# Altium schematic symbol library V1.SchLib: 35 symbols
Pins are listed as number, name and electrical type; pins without a type are passive.

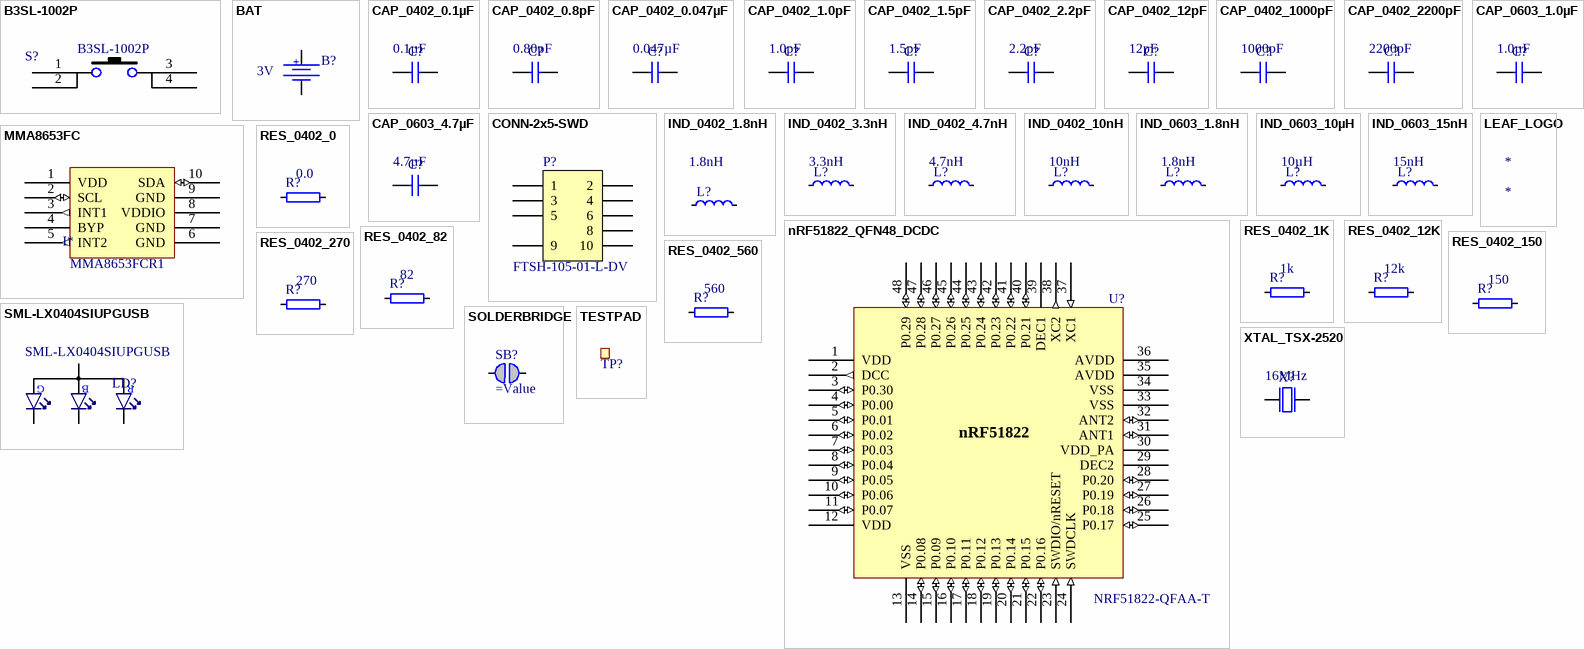
[diagram p0: symbols B3SL-1002P to XTAL_TSX-2520]

## B3SL-1002P
designator S?, comment Manufacturer Part Number 1: B3SL-1002P  (hidden comment: Digi-Key)
SWITCH TACTILE SPST-NO 0.05A 12V; Manufacturer 1: Omron Electronics Inc-EMC Div; Switch Function: Off-Mom; Contact Rating @ Voltage: 0.05A @ 12VDC; Actuator Type: Standard; Actuator Height off PCB, from Pins: 3.40mm; Actuator Orientation: Top Actuated; Outline: 6.00mm x 6.00mm; Illumination: Non-Illuminated; Operating Force: 200gf; Ingress Protection: IP67 - Dust Tight, Waterproof; Actuator Material: Rubber; Switch Travel: 0.30mm; Mechanical Life: 100,000 Cycles; Supplier 1: Digi-Key; Supplier Part Number 1: SW1064CT-ND; RoHS: RoHS Compliant; Description 1: SWITCH TACTILE SPST-NO 0.05A 12V; Category: Switches; Stock 1: 1994; Pricing 1: 1=0.83, 10=0.804, 25=0.7588, 50=0.6676, 100=0.607, 250=0.57664, 500=0.56146, 1000=0.44006 (USD); Packaging: Cut Tape (CT); Circuit: SPST-NO; Mounting Type: Surface Mount; Termination Style: SMD (SMT) Tab; Illumination Voltage (Nominal): -; Illumination Type, Color: -; Features: Sealed - Fully; Operating Temperature: -25°C ~ 90°C; ComponentLink1URL: http://components.omron.com/components/web/pdflib.nsf/0/08698493193ABB20862574E8006A227D/$file/B3SL_1110.pdf; ComponentLink1Description: http://components.omron.com/components/web/pdflib.nsf/0/08698493193ABB20862574E8006A227D/$file/B3SL_1110.pdf
footprint B3SL-1002P
pins: 1, 2, 3, 4

## BAT
designator B?  value 3V
HOLDER BATTERY COIN 20MM DIA SMD; Manufacturer 1: MPD (Memory Protection Devices); Manufacturer Part Number 1: BU2032SM-BT-GTR; Description 1: HOLDER CR2032 GOLD LEADS SMD; Battery Type, Function: Coin Cell, Holder; Style: Holder (Open); Battery Cell Size: Coin, 20.0mm; Number of Cells: 1; Battery Series: 2032; Supplier 1: Digi-Key; Supplier Part Number 1: BU2032SM-BT-GCT-ND; RoHS: RoHS Compliant; Category: Battery Products; Stock 1: 25334; Pricing 1: 1=0.6, 10=0.555, 100=0.525 (USD); Mounting Type: PCB, Surface Mount; Termination Style: SMD (SMT) Tab; Height Above Board: 0.205" (5.20mm); Operating Temperature: -40°C ~ 280°C; ComponentLink1URL: http://www.memoryprotectiondevices.com/datasheets/BU2032SM-BT-GTR-datasheet.pdf; ComponentLink1Description: http://www.memoryprotectiondevices.com/datasheets/BU2032SM-BT-GTR-datasheet.pdf
footprint BU2032SM-BT-GTR
pins: 1, 2
text: +

## CAP_0402_0.1µF
designator C?, comment 0.1µF
CAP CER 0.1UF 16V 10% X7R 0402; Manufacturer 1: Taiyo Yuden; Manufacturer Part Number 1: EMK105B7104KV-F; Supplier 1: Digi-Key; Supplier Part Number 1: 587-1451-1-ND; RoHS: RoHS Compliant; Description 1: CAP CER 0.1UF 16V 10% X7R 0402; Category: Capacitors; Stock 1: 1961539; Pricing 1: 1=0.1, 10=0.016, 50=0.0084, 100=0.0072, 250=0.00584, 500=0.005, 1000=0.0039, 5000=0.00325 (USD); Packaging: Cut Tape (CT); Voltage - Rated: 16V; Tolerance: ±10%; Temperature Coefficient: X7R; Mounting Type: Surface Mount, MLCC; Operating Temperature: -55°C ~ 125°C; Applications: General Purpose; Ratings: -; Package / Case: 0402 (1005 Metric); Size / Dimension: 0.039" L x 0.020" W (1.00mm x 0.50mm); Height - Seated (Max): -; Thickness (Max): 0.022" (0.55mm); Lead Spacing: -; Features: -; Lead Style: -; ComponentLink1URL: http://www.yuden.co.jp/or/product/category/capacitor/EMK105B7104KV-F.pdf; ComponentLink1Description: http://www.yuden.co.jp/or/product/category/capacitor/EMK105B7104KV-F.pdf; Capacitance: 0.1µF
footprint CAPC1005X04L
pins: 1, 2

## CAP_0402_0.8pF
designator C?, comment 0.80pF
CAP CER 0.8PF 50V NP0 0402; Manufacturer 1: Kemet; Manufacturer Part Number 1: CBR04C808C5GAC; Tolerance: ±0.25pF; Temperature Coefficient: C0G, NP0; Supplier 1: Digi-Key; Supplier Part Number 1: 399-6160-1-ND; RoHS: RoHS Compliant; Description 1: CAP CER 0.8PF 50V NP0 0402; Category: Capacitors; Stock 1: 23376; Pricing 1: 1=0.11, 10=0.08, 50=0.0436, 100=0.0369, 250=0.03016, 500=0.0258, 1000=0.0201, 2500=0.01809, 5000=0.01675 (USD); Packaging: Cut Tape (CT); Voltage - Rated: 50V; Mounting Type: Surface Mount, MLCC; Operating Temperature: -55°C ~ 125°C; Applications: RF, Microwave, High Frequency; Ratings: -; Package / Case: 0402 (1005 Metric); Size / Dimension: 0.039" L x 0.020" W (1.00mm x 0.50mm); Height - Seated (Max): -; Thickness (Max): 0.022" (0.55mm); Lead Spacing: -; Features: High Q, Low Loss; Lead Style: -; ComponentLink1URL: http://www.kemet.com/kemet/web/homepage/kechome.nsf/file/E8E10945B57BE93285257989006DD493/$file/KEM_C1030_CBR_SMD.pdf; ComponentLink1Description: http://www.kemet.com/kemet/web/homepage/kechome.nsf/file/E8E10945B57BE93285257989006DD493/$file/KEM_C1030_CBR_SMD.pdf; Capacitance: 0.80pF
footprint CAPC1005X04L
pins: 1, 2

## CAP_0402_0.047µF
designator C?, comment 0.047µF
CAP CER 0.047UF 16V 10% X7R 0402; Manufacturer 1: Samsung Electro-Mechanics America, Inc; Manufacturer Part Number 1: CL05B473KO5NNNC; Supplier 1: Digi-Key; Supplier Part Number 1: 1276-1077-1-ND; RoHS: RoHS Compliant; Description 1: CAP CER 0.047UF 16V 10% X7R 0402; Category: Capacitors; Stock 1: 43117; Pricing 1: 1=0.1, 10=0.014, 25=0.0104, 50=0.0078, 100=0.0066, 250=0.0054, 500=0.00462, 1000=0.0036, 2500=0.00324 (USD); Packaging: Cut Tape (CT); Voltage - Rated: 16V; Tolerance: ±10%; Temperature Coefficient: X7R; Mounting Type: Surface Mount, MLCC; Operating Temperature: -55°C ~ 125°C; Applications: General Purpose; Ratings: -; Package / Case: 0402 (1005 Metric); Size / Dimension: 0.039" L x 0.020" W (1.00mm x 0.50mm); Height - Seated (Max): -; Thickness (Max): 0.022" (0.55mm); Lead Spacing: -; Features: -; Lead Style: -; ComponentLink1URL: http://www.samsungsem.com/servlet/FileDownload?type=spec&file=CL05B473KO5NNNC.pdf; ComponentLink1Description: http://www.samsungsem.com/servlet/FileDownload?type=spec&file=CL05B473KO5NNNC.pdf; Capacitance: 0.047µF
footprint CAPC1005X04L
pins: 1, 2

## CAP_0402_1.0pF
designator C?, comment 1.0pF
CAP CER 1PF 50V NP0 0402; Manufacturer 1: Johanson Technology Inc; Manufacturer Part Number 1: 500R07S1R0BV4T; Tolerance: ±0.1pF; Temperature Coefficient: C0G, NP0; Supplier 1: Digi-Key; Supplier Part Number 1: 712-1266-1-ND; RoHS: RoHS Compliant; Category: Capacitors; Stock 1: 34245; Pricing 1: 1=0.19, 10=0.13, 25=0.0976, 50=0.0748, 100=0.0618, 250=0.052, 500=0.04356, 1000=0.03575, 2500=0.03282 (USD); Packaging: Cut Tape (CT); Voltage - Rated: 50V; Mounting Type: Surface Mount, MLCC; Operating Temperature: -55°C ~ 125°C; Applications: RF, Microwave, High Frequency; Ratings: -; Package / Case: 0402 (1005 Metric); Size / Dimension: 0.040" L x 0.020" W (1.02mm x 0.51mm); Height - Seated (Max): -; Thickness (Max): 0.024" (0.61mm); Lead Spacing: -; Features: High Q, Low Loss; Lead Style: -; ComponentLink1URL: http://www.johansontechnology.com/images/stories/catalog/JTI_CAT_2012_MLCC_HighQ.pdf; ComponentLink1Description: http://www.johansontechnology.com/images/stories/catalog/JTI_CAT_2012_MLCC_HighQ.pdf; Description 1: CAP CER 1PF 50V NP0 0402; Capacitance: 1.0pF
footprint CAPC1005X04L
pins: 1, 2

## CAP_0402_1.5pF
designator C?, comment 1.5pF
CAP CER 1.5PF 50V NP0 0402; Manufacturer 1: Samsung Electro-Mechanics America, Inc; Manufacturer Part Number 1: CL05C1R5BB5NNNC; Tolerance: ±0.1pF; Temperature Coefficient: C0G, NP0; Supplier 1: Digi-Key; Supplier Part Number 1: 1276-1656-1-ND; RoHS: RoHS Compliant; Description 1: CAP CER 1.5PF 50V NP0 0402; Category: Capacitors; Stock 1: 28360; Pricing 1: 1=0.1, 10=0.026, 25=0.0188, 50=0.0144, 100=0.0121, 250=0.00992, 500=0.00848, 1000=0.0066, 2500=0.00594 (USD); Packaging: Cut Tape (CT); Voltage - Rated: 50V; Mounting Type: Surface Mount, MLCC; Operating Temperature: -55°C ~ 125°C; Applications: General Purpose; Ratings: -; Package / Case: 0402 (1005 Metric); Size / Dimension: 0.039" L x 0.020" W (1.00mm x 0.50mm); Height - Seated (Max): -; Thickness (Max): 0.022" (0.55mm); Lead Spacing: -; Features: -; Lead Style: -; ComponentLink1URL: http://www.samsungsem.com/servlet/FileDownload?type=spec&file=CL05C1R5BB5NNNC.pdf; ComponentLink1Description: http://www.samsungsem.com/servlet/FileDownload?type=spec&file=CL05C1R5BB5NNNC.pdf; Capacitance: 1.5pF
footprint CAPC1005X04L
pins: 1, 2

## CAP_0402_2.2pF
designator C?, comment 2.2pF
CAP CER 2.2PF 100V NP0 0402; Manufacturer 1: Kemet; Manufacturer Part Number 1: CBR04C229B1GAC; Tolerance: ±0.1pF; Temperature Coefficient: C0G, NP0; Supplier 1: Digi-Key; Supplier Part Number 1: 399-8593-1-ND; RoHS: RoHS Compliant; Description 1: CAP CER 2.2PF 100V NP0 0402; Category: Capacitors; Stock 1: 7453; Pricing 1: 1=0.21, 10=0.145, 50=0.088, 100=0.0739, 250=0.05984, 500=0.0528, 1000=0.04488, 2500=0.04136, 5000=0.03784 (USD); Packaging: Cut Tape (CT); Voltage - Rated: 100V; Mounting Type: Surface Mount, MLCC; Operating Temperature: -55°C ~ 125°C; Applications: RF, Microwave, High Frequency; Ratings: -; Package / Case: 0402 (1005 Metric); Size / Dimension: 0.039" L x 0.020" W (1.00mm x 0.50mm); Height - Seated (Max): -; Thickness (Max): 0.022" (0.55mm); Lead Spacing: -; Features: High Q, Low Loss; Lead Style: -; ComponentLink1URL: http://www.kemet.com/kemet/web/homepage/kechome.nsf/file/E8E10945B57BE93285257989006DD493/$file/KEM_C1030_CBR_SMD.pdf; ComponentLink1Description: http://www.kemet.com/kemet/web/homepage/kechome.nsf/file/E8E10945B57BE93285257989006DD493/$file/KEM_C1030_CBR_SMD.pdf; Capacitance: 2.2pF
footprint CAPC1005X04L
pins: 1, 2

## CAP_0402_12pF
designator C?, comment 12pF
CAP CER 10PF 50V 2% NP0 0402; Manufacturer 1: Johanson Technology Inc; Manufacturer Part Number 1: 500R07S120GV4T; Description 1: CAP CER 12PF 50V 2% NP0 0402; Temperature Coefficient: C0G, NP0; Supplier 1: Digi-Key; Supplier Part Number 1: 712-1256-1-ND; RoHS: RoHS Compliant; Category: Capacitors; Stock 1: 55015; Pricing 1: 1=0.32, 10=0.28, 25=0.2, 50=0.17, 100=0.14, 250=0.112, 500=0.102, 1000=0.092, 2500=0.08 (USD); Packaging: Cut Tape (CT); Voltage - Rated: 50V; Tolerance: ±2%; Mounting Type: Surface Mount, MLCC; Operating Temperature: -55°C ~ 125°C; Applications: RF, Microwave, High Frequency; Ratings: -; Package / Case: 0402 (1005 Metric); Size / Dimension: 0.040" L x 0.020" W (1.02mm x 0.51mm); Height - Seated (Max): -; Thickness (Max): 0.024" (0.61mm); Lead Spacing: -; Features: High Q, Low Loss; Lead Style: -; ComponentLink1URL: http://www.johansontechnology.com/images/stories/catalog/JTI_CAT_2012_MLCC_HighQ.pdf; ComponentLink1Description: http://www.johansontechnology.com/images/stories/catalog/JTI_CAT_2012_MLCC_HighQ.pdf; Capacitance: 12pF
footprint CAPC1005X04L
pins: 1, 2

## CAP_0402_1000pF
designator C?, comment 1000pF
CAP CER 1000PF 50V 10% X7R 0402; Manufacturer 1: Samsung Electro-Mechanics America, Inc; Manufacturer Part Number 1: CL05B102KB5NCNC; Supplier 1: Digi-Key; Supplier Part Number 1: 1276-1492-1-ND; RoHS: RoHS Compliant; Description 1: CAP CER 1000PF 50V 10% X7R 0402; Category: Capacitors; Stock 1: 41244; Pricing 1: 1=0.1, 10=0.011, 25=0.008, 50=0.006, 100=0.0051, 250=0.0042, 500=0.00358, 1000=0.00279, 2500=0.00251 (USD); Packaging: Cut Tape (CT); Voltage - Rated: 50V; Tolerance: ±10%; Temperature Coefficient: X7R; Mounting Type: Surface Mount, MLCC; Operating Temperature: -55°C ~ 125°C; Applications: General Purpose; Ratings: -; Package / Case: 0402 (1005 Metric); Size / Dimension: 0.039" L x 0.020" W (1.00mm x 0.50mm); Height - Seated (Max): -; Thickness (Max): 0.022" (0.55mm); Lead Spacing: -; Features: -; Lead Style: -; ComponentLink1URL: http://www.samsungsem.com/servlet/FileDownload?type=spec&file=CL05B102KB5NCNC.pdf; ComponentLink1Description: http://www.samsungsem.com/servlet/FileDownload?type=spec&file=CL05B102KB5NCNC.pdf; Capacitance: 1000pF
footprint CAPC1005X04L
pins: 1, 2

## CAP_0402_2200pF
designator C?, comment 2200pF
CAP CER 2200PF 50V 10% X7R 0402; Manufacturer 1: Samsung Electro-Mechanics America, Inc; Manufacturer Part Number 1: CL05B222KB5NNNC; Supplier 1: Digi-Key; Supplier Part Number 1: 1276-1054-1-ND; RoHS: RoHS Compliant; Description 1: CAP CER 2200PF 50V 10% X7R 0402; Category: Capacitors; Stock 1: 75521; Pricing 1: 1=0.1, 10=0.014, 25=0.0104, 50=0.0078, 100=0.0066, 250=0.0054, 500=0.00462, 1000=0.0036, 2500=0.00324 (USD); Packaging: Cut Tape (CT); Voltage - Rated: 50V; Tolerance: ±10%; Temperature Coefficient: X7R; Mounting Type: Surface Mount, MLCC; Operating Temperature: -55°C ~ 125°C; Applications: General Purpose; Ratings: -; Package / Case: 0402 (1005 Metric); Size / Dimension: 0.039" L x 0.020" W (1.00mm x 0.50mm); Height - Seated (Max): -; Thickness (Max): 0.022" (0.55mm); Lead Spacing: -; Features: -; Lead Style: -; ComponentLink1URL: http://www.samsungsem.com/servlet/FileDownload?type=spec&file=CL05B222KB5NNNC.pdf; ComponentLink1Description: http://www.samsungsem.com/servlet/FileDownload?type=spec&file=CL05B222KB5NNNC.pdf; Capacitance: 2200pF
footprint CAPC1005X04L
pins: 1, 2

## CAP_0603_1.0µF
designator C?, comment 1.0µF
CAP CER 1UF 16V 10% X7R 0603; Manufacturer 1: Taiyo Yuden; Manufacturer Part Number 1: EMK107B7105KA-T; Supplier 1: Digi-Key; Supplier Part Number 1: 587-1241-1-ND; RoHS: RoHS Compliant; Description 1: CAP CER 1UF 16V 10% X7R 0603; Category: Capacitors; Stock 1: 868936; Pricing 1: 1=0.1, 10=0.06, 50=0.0326, 100=0.0275, 250=0.02252, 500=0.01926, 1000=0.015 (USD); Packaging: Cut Tape (CT); Voltage - Rated: 16V; Tolerance: ±10%; Temperature Coefficient: X7R; Mounting Type: Surface Mount, MLCC; Operating Temperature: -55°C ~ 125°C; Applications: General Purpose; Ratings: -; Package / Case: 0603 (1608 Metric); Size / Dimension: 0.063" L x 0.031" W (1.60mm x 0.80mm); Height - Seated (Max): -; Thickness (Max): 0.035" (0.90mm); Lead Spacing: -; Features: -; Lead Style: -; ComponentLink1URL: http://www.yuden.co.jp/or/product/category/capacitor/EMK107B7105KA-T.pdf; ComponentLink1Description: http://www.yuden.co.jp/or/product/category/capacitor/EMK107B7105KA-T.pdf; Capacitance: 1.0µF
footprint CAPC1608X06L
pins: 1, 2

## CAP_0603_4.7µF
designator C?, comment 4.7µF
CAP CER 4.7UF 6.3V 10% X5R 0603; Manufacturer 1: Kemet; Manufacturer Part Number 1: C0603C475K9PACTU; Supplier 1: Digi-Key; Supplier Part Number 1: 399-3482-1-ND; RoHS: RoHS Compliant; Description 1: CAP CER 4.7UF 6.3V 10% X5R 0603; Category: Capacitors; Stock 1: 240677; Pricing 1: 1=0.13, 10=0.09, 50=0.0518, 100=0.0428, 250=0.036, 500=0.03016, 1000=0.02475 (USD); Packaging: Cut Tape (CT); Voltage - Rated: 6.3V; Tolerance: ±10%; Temperature Coefficient: X5R; Mounting Type: Surface Mount, MLCC; Operating Temperature: -55°C ~ 85°C; Applications: General Purpose; Ratings: -; Package / Case: 0603 (1608 Metric); Size / Dimension: 0.063" L x 0.031" W (1.60mm x 0.80mm); Height - Seated (Max): -; Thickness (Max): 0.035" (0.90mm); Lead Spacing: -; Features: -; Lead Style: -; ComponentLink1URL: http://www.kemet.com/datasheets&C0603C475K9PACTU; ComponentLink1Description: http://www.kemet.com/datasheets&C0603C475K9PACTU; Capacitance: 4.7µF
footprint CAPC1608X06L
pins: 1, 2

## CONN-2x5-SWD
designator P?, comment FTSH-105-01-L-DV
FTSH-105-01-L-DV  BOARD-BOARD CONN, HEADER, 10WAY, 2ROW; Manufacturer 1: SAMTEC; Description 1: SAMTEC - FTSH-105-01-L-DV - BOARD-BOARD CONN, HEADER, 10WAY, 2ROW; Supplier 1: Newark; Supplier Part Number 1: 11P4814; RoHS: YES; Stock 1: 937; Pricing 1: 1=2.18, 10=1.91, 100=1.63, 500=1.34, 1000=1.15, 5000=1.04, 10000=0.988 (USD); ComponentLink1URL: http://www.farnell.com/datasheets/1021860.pdf; ComponentLink1Description: http://www.farnell.com/datasheets/1021860.pdf; ComponentLink2URL: http://www.samtec.com/ftppub/pdf/FTSH_SMT.PDF; ComponentLink2Description: http://www.samtec.com/ftppub/pdf/FTSH_SMT.PDF; Manufacturer Part Number 1: FTSH-105-01-L-DV
footprint HDR_2x5-SMD-1.27mm-SWD
pins: 1, 2, 3, 4, 5, 6, 8, 9, 10

## IND_0402_1.8nH
designator L?  Inductance: 1.8nH
CER INDUCTOR 1.8NH 0402; Manufacturer 1: Johanson Technology Inc; Manufacturer Part Number 1: L-07C1N8SV6T; Type: Multilayer; Material - Core: Ceramic; Tolerance: ±0.3nH; Current Rating: 300mA; Shielding: Unshielded; DC Resistance (DCR): 140 mOhm Max; Q @ Freq: 8 @ 100MHz; Frequency - Self Resonant: 14GHz; Frequency - Test: 100MHz; Supplier 1: Digi-Key; Supplier Part Number 1: 712-1412-1-ND; RoHS: RoHS Compliant; Description 1: CER INDUCTOR 1.8NH 0402; Category: Inductors, Coils, Chokes; Stock 1: 17869; Pricing 1: 1=0.1, 10=0.05, 25=0.0452, 50=0.0406, 100=0.0351, 250=0.03152, 500=0.02926, 1000=0.02565 (USD); Packaging: Cut Tape (CT); Current - Saturation: -; Operating Temperature: -40°C ~ 100°C; Mounting Type: Surface Mount; Package / Case: 0402 (1005 Metric); Size / Dimension: 0.039" L x 0.020" W (1.00mm x 0.50mm); Height - Seated (Max): 0.024" (0.60mm); Supplier Device Package: 0402 (1005 Metric); ComponentLink1URL: http://www.johansontechnology.com/images/stories/rf-inductors/cci/JTI_CAT_2012_Inductors_Chip.pdf; ComponentLink1Description: http://www.johansontechnology.com/images/stories/rf-inductors/cci/JTI_CAT_2012_Inductors_Chip.pdf
footprint INDC1005X04L
pins: 1, 2

## IND_0402_3.3nH
designator L?, comment 3.3nH
INDUCTOR 3.3NH 0402 SMD; Manufacturer 1: Bourns Inc.; Manufacturer Part Number 1: CW100505-3N3J; Type: Wirewound; Material - Core: Ceramic; Tolerance: ±5%; Current Rating: 840mA; Shielding: Unshielded; DC Resistance (DCR): 66 mOhm; Q @ Freq: 20 @ 250MHz; Frequency - Self Resonant: 6GHz; Frequency - Test: 250MHz; Supplier 1: Digi-Key; Supplier Part Number 1: CW100505-3N3JCT-ND; RoHS: RoHS Compliant; Description 1: INDUCTOR 3.3NH 0402 SMD; Category: Inductors, Coils, Chokes; Stock 1: 10485; Pricing 1: 1=0.26, 10=0.23, 25=0.204, 50=0.1786, 100=0.1658, 250=0.153, 500=0.14536, 1000=0.1173 (USD); Packaging: Cut Tape (CT); Current - Saturation: -; Operating Temperature: -55°C ~ 125°C; Mounting Type: Surface Mount; Package / Case: 0402 (1005 Metric); Size / Dimension: 0.039" L x 0.022" W (1.00mm x 0.55mm); Height - Seated (Max): 0.024" (0.60mm); Supplier Device Package: 0402 (1005 Metric); ComponentLink1URL: http://www.bourns.com/data/global/pdfs/CW100505.pdf; ComponentLink1Description: http://www.bourns.com/data/global/pdfs/CW100505.pdf; Inductance: 3.3nH
footprint INDC1005X04L
pins: 1, 2

## IND_0402_4.7nH
designator L?, comment 4.7nH
INDUCTOR 4.7NH 0402 SMD; Manufacturer 1: Bourns Inc.; Manufacturer Part Number 1: CW100505-4N7J; Type: Wirewound; Material - Core: Ceramic; Tolerance: ±5%; Current Rating: 640mA; Shielding: Unshielded; DC Resistance (DCR): 130 mOhm; Q @ Freq: 15 @ 250MHz; Frequency - Self Resonant: 4.775GHz; Frequency - Test: 250MHz; Supplier 1: Digi-Key; Supplier Part Number 1: CW100505-4N7JCT-ND; RoHS: RoHS Compliant; Description 1: INDUCTOR 4.7NH 0402 SMD; Category: Inductors, Coils, Chokes; Stock 1: 11681; Pricing 1: 1=0.26, 10=0.23, 25=0.204, 50=0.1786, 100=0.1658, 250=0.153, 500=0.14536, 1000=0.1173 (USD); Packaging: Cut Tape (CT); Current - Saturation: -; Operating Temperature: -55°C ~ 125°C; Mounting Type: Surface Mount; Package / Case: 0402 (1005 Metric); Size / Dimension: 0.039" L x 0.022" W (1.00mm x 0.55mm); Height - Seated (Max): 0.024" (0.60mm); Supplier Device Package: 0402 (1005 Metric); ComponentLink1URL: http://www.bourns.com/data/global/pdfs/CW100505.pdf; ComponentLink1Description: http://www.bourns.com/data/global/pdfs/CW100505.pdf; Inductance: 4.7nH
footprint INDC1005X04L
pins: 1, 2

## IND_0402_10nH
designator L?  Inductance: 10nH
INDUCTOR HI FREQ 10NH 5% 0402; Manufacturer 1: Taiyo Yuden; Manufacturer Part Number 1: HK100510NJ-T; Type: Multilayer; Current Rating: 340mA; Shielding: Unshielded; DC Resistance (DCR): 310 mOhm Max; Q @ Freq: 8 @ 100MHz; Frequency - Self Resonant: 3.2GHz; Frequency - Test: 100MHz; Supplier 1: Digi-Key; Supplier Part Number 1: 587-1519-1-ND; RoHS: RoHS Compliant; Description 1: INDUCTOR HI FREQ 10NH 5% 0402; Category: Inductors, Coils, Chokes; Stock 1: 65244; Pricing 1: 1=0.02, 10=0.02, 50=0.0188, 100=0.0175, 500=0.01376, 1000=0.01125, 5000=0.009 (USD); Packaging: Cut Tape (CT); Material - Core: -; Tolerance: ±5%; Current - Saturation: -; Operating Temperature: -55°C ~ 85°C; Mounting Type: Surface Mount; Package / Case: 0402 (1005 Metric); Size / Dimension: 0.039" L x 0.020" W (1.00mm x 0.50mm); Height - Seated (Max): 0.022" (0.55mm); Supplier Device Package: 0402 (1005 Metric); ComponentLink1URL: http://www.yuden.co.jp/ut/product/category/inductor/HK100510NJ-T.pdf; ComponentLink1Description: http://www.yuden.co.jp/ut/product/category/inductor/HK100510NJ-T.pdf
footprint INDC1005X04L
pins: 1, 2

## IND_0603_1.8nH
designator L?  Inductance: 1.8nH
INDUCTOR MULTILAYER 1.8NH 0402; Manufacturer 1: TDK Corporation; Manufacturer Part Number 1: MLG1005S1N8S; Material - Core: Ceramic; Tolerance: ±0.3nH; Current Rating: 900mA; Shielding: Unshielded; DC Resistance (DCR): 150 mOhm Max; Q @ Freq: 7 @ 100MHz; Frequency - Self Resonant: 8GHz; Frequency - Test: 100MHz; Supplier 1: Digi-Key; Supplier Part Number 1: 445-3041-1-ND; RoHS: RoHS Compliant; Description 1: INDUCTOR MULTILAYER 1.8NH 0402; Category: Inductors, Coils, Chokes; Stock 1: 24662; Pricing 1: 1=0.1, 10=0.05, 50=0.039, 100=0.035, 500=0.03, 1000=0.026 (USD); Packaging: Cut Tape (CT); Type: Multilayer; Current - Saturation: -; Operating Temperature: -55°C ~ 125°C; Mounting Type: Surface Mount; Package / Case: 0402 (1005 Metric); Size / Dimension: 0.039" L x 0.020" W (1.00mm x 0.50mm); Height - Seated (Max): 0.022" (0.55mm); Supplier Device Package: 0402 (1005 Metric); ComponentLink1URL: http://www.tdk.co.jp/tefe02/e521_mlg.pdf; ComponentLink1Description: http://www.tdk.co.jp/tefe02/e521_mlg.pdf
footprint INDC1608X06L
pins: 1, 2

## IND_0603_10µH
designator L?  Inductance: 10µH
INDUCTOR MULTILAYER 10UH 0603; Manufacturer 1: TDK Corporation; Manufacturer Part Number 1: MLZ1608E100M; Material - Core: Ferrite; Tolerance: ±20%; Current Rating: 40mA; Shielding: Shielded; DC Resistance (DCR): 900 mOhm; Frequency - Self Resonant: 30MHz; Frequency - Test: 2MHz; Supplier 1: Digi-Key; Supplier Part Number 1: 445-3166-1-ND; RoHS: RoHS Compliant; Description 1: INDUCTOR MULTILAYER 10UH 0603; Category: Inductors, Coils, Chokes; Stock 1: 26830; Pricing 1: 1=0.14, 10=0.125, 50=0.0976, 100=0.0875, 500=0.075, 1000=0.065 (USD); Packaging: Cut Tape (CT); Type: Multilayer; Current - Saturation: -; Q @ Freq: -; Operating Temperature: -55°C ~ 125°C; Mounting Type: Surface Mount; Package / Case: 0603 (1608 Metric); Size / Dimension: 0.063" L x 0.031" W (1.60mm x 0.80mm); Height - Seated (Max): 0.037" (0.95mm); Supplier Device Package: 0603 (1608 Metric); ComponentLink1URL: http://www.tdk.co.jp/tefe02/e533_mlz.pdf; ComponentLink1Description: http://www.tdk.co.jp/tefe02/e533_mlz.pdf
footprint INDC1608X06L
pins: 1, 2

## IND_0603_15nH
designator L?, comment 15nH
INDUCTOR 15NH 10% 0603 SMD; Manufacturer 1: Panasonic Electronic Components; Manufacturer Part Number 1: ELJ-PE15NKFA; Type: Wirewound; Material - Core: Ceramic; Current Rating: 900mA; Shielding: Unshielded; DC Resistance (DCR): 100 mOhm Max; Q @ Freq: 9 @ 100MHz; Frequency - Self Resonant: 2.2GHz; Frequency - Test: 100MHz; Supplier 1: Digi-Key; Supplier Part Number 1: PCD1958CT-ND; RoHS: RoHS Compliant; Description 1: INDUCTOR 15NH 10% 0603 SMD; Category: Inductors, Coils, Chokes; Stock 1: 9763; Pricing 1: 1=0.34, 10=0.32, 50=0.2996, 100=0.2797, 500=0.21972, 1000=0.17978 (USD); Packaging: Cut Tape (CT); Tolerance: ±10%; Current - Saturation: -; Operating Temperature: -40°C ~ 85°C; Mounting Type: Surface Mount; Package / Case: 0603 (1608 Metric); Size / Dimension: 0.063" L x 0.031" W (1.60mm x 0.80mm); Height - Seated (Max): 0.031" (0.80mm); Supplier Device Package: 0603 (1608 Metric); ComponentLink1URL: http://industrial.panasonic.com/www-cgi/jvcr13pz.cgi?E+PZ+3+AGA0034+ELJPE15NKFA+7+WW; ComponentLink1Description: http://industrial.panasonic.com/www-cgi/jvcr13pz.cgi?E+PZ+3+AGA0034+ELJPE15NKFA+7+WW; Inductance: 15nH
footprint INDC1608X06L
pins: 1, 2

## LEAF_LOGO
designator *  (no BOM)
footprint Leaf Logo

## MMA8653FC
designator I*, comment MMA8653FCR1
IC ACCELEROMETER 3AXIS 10DFN; Manufacturer 1: Freescale Semiconductor; Axis: X, Y, Z; Acceleration Range: ±2g, 4g, 8g; Sensitivity: 256 count/g, 128 count/g, 64 count/g; Voltage - Supply: 1.95 V ~ 3.6 V; Output Type: Digital - I²C; Bandwidth: 800Hz; Interface: I²C; Supplier 1: Digi-Key; Supplier Part Number 1: MMA8653FCR1CT-ND; RoHS: RoHS Compliant By Exemption; Description 1: IC ACCELEROMETER 3AXIS 10DFN; Category: Sensors, Transducers; Stock 1: 9318; Pricing 1: 1=1.09, 10=0.975, 25=0.9164, 100=0.8775, 250=0.83852, 500=0.78 (USD); Mounting Type: Surface Mount; Package / Case: 10-VFDFN; Supplier Device Package: 10-DFN (2x2); ComponentLink1URL: http://cache.freescale.com/files/sensors/doc/data_sheet/MMA8653FC.pdf; ComponentLink1Description: http://cache.freescale.com/files/sensors/doc/data_sheet/MMA8653FC.pdf; Manufacturer Part Number 1: MMA8653FCR1
footprint DFN10P200X200X100
pins: 1 VDD (power), 2 SCL (io), 3 INT1 (out), 4 BYP, 5 INT2 (out), 6 GND (power), 7 GND (power), 8 VDDIO, 9 GND (power), 10 SDA (io)

## nRF51822_QFN48_DCDC
designator U?, comment NRF51822-QFAA-T
MULTIPROTOCOL BLUETOOTH 4.0 LOW ENERGY/2.4 GHZ RF SOC; Manufacturer 1: Nordic Semiconductors; Supplier 1: Arrow; Supplier Part Number 1: NRF51822-QFAA-T; RoHS: eurohs: Compliant / cnrohs: Compliant; Description 1: MULTIPROTOCOL BLUETOOTH 4.0 LOW ENERGY/2.4 GHZ RF SOC; Stock 1: 4755; Pricing 1: 1=2.91 (); Package Quantity: 1; ComponentLink1URL: http://components.arrow.com/part/detail/56492542S527112N7340?region=na; ComponentLink1Description: http://components.arrow.com/part/detail/56492542S527112N7340?region=na; Manufacturer Part Number 1: NRF51822-QFAA-T
footprint QFN40P600X600X90-48N
pins: 1 VDD (power), 2 DCC (out), 3 P0.30 (io), 4 P0.00 (io), 5 P0.01 (io), 6 P0.02 (io), 7 P0.03 (io), 8 P0.04 (io), 9 P0.05 (io), 10 P0.06 (io), 11 P0.07 (io), 12 VDD (power), 13 VSS (power), 14 P0.08 (io), 15 P0.09 (io), 16 P0.10 (io), 17 P0.11 (io), 18 P0.12 (io), 19 P0.13 (io), 20 P0.14 (io), 21 P0.15 (io), 22 P0.16 (io), 23 SWDIO/nRESET (in), 24 SWDCLK (in), 25 P0.17 (io), 26 P0.18 (io), 27 P0.19 (io), 28 P0.20 (io), 29 DEC2 (power), 30 VDD_PA (power), 31 ANT1 (io), 32 ANT2 (io), 33 VSS (power), 34 VSS (power), 35 AVDD (power), 36 AVDD (power), 37 XC1 (in), 38 XC2 (out), 39 DEC1 (power), 40 P0.21 (io), 41 P0.22 (io), 42 P0.23 (io), 43 P0.24 (io), 44 P0.25 (io), 45 P0.26 (io), 46 P0.27 (io), 47 P0.28 (io), 48 P0.29 (io), 49 (power) hidden to GND
text: nRF51822

## RES_0402_0
designator R?, comment 0.0
RES 0.0 OHM 1/16W JUMP 0402 SMD; Manufacturer 1: Yageo; Manufacturer Part Number 1: RC0402JR-070RL; Tolerance: Jumper; Power (Watts): 0.063W, 1/16W; Supplier 1: Digi-Key; Supplier Part Number 1: 311-0.0JRCT-ND; RoHS: RoHS Compliant; Description 1: RES 0.0 OHM 1/16W JUMP 0402 SMD; Category: Resistors; Stock 1: 8260595; Pricing 1: 1=0.1, 10=0.012, 25=0.0092, 100=0.0055, 250=0.00476, 500=0.00336, 1000=0.00237, 2500=0.00206, 5000=0.00178 (USD); Packaging: Cut Tape (CT); Composition: Thick Film; Features: -; Temperature Coefficient: -; Package / Case: 0402 (1005 Metric); Supplier Device Package: 0402; Size / Dimension: 0.039" L x 0.020" W (1.00mm x 0.50mm); Height: 0.016" (0.40mm); Number of Terminations: 2; ComponentLink1URL: http://www.yageo.com/documents/recent/PYu-RC0402_51_RoHS_L_6.pdf; ComponentLink1Description: http://www.yageo.com/documents/recent/PYu-RC0402_51_RoHS_L_6.pdf; Resistance (Ohms): 0.0
footprint RESC1005X04L
pins: 1, 2

## RES_0402_1K
designator R?, comment 1k
RES 1.00K OHM 1/16W 1% 0402 SMD; Manufacturer 1: Yageo; Manufacturer Part Number 1: RC0402FR-071KL; Power (Watts): 0.063W, 1/16W; Temperature Coefficient: ±100ppm/°C; Supplier 1: Digi-Key; Supplier Part Number 1: 311-1.00KLRCT-ND; RoHS: RoHS Compliant; Description 1: RES 1.00K OHM 1/16W 1% 0402 SMD; Category: Resistors; Stock 1: 5170101; Pricing 1: 1=0.1, 10=0.014, 25=0.0104, 100=0.0063, 250=0.0054, 500=0.00382, 1000=0.0027, 2500=0.00234, 5000=0.00203 (USD); Packaging: Cut Tape (CT); Tolerance: ±1%; Composition: Thick Film; Features: -; Package / Case: 0402 (1005 Metric); Supplier Device Package: 0402; Size / Dimension: 0.039" L x 0.020" W (1.00mm x 0.50mm); Height: 0.016" (0.40mm); Number of Terminations: 2; ComponentLink1URL: http://www.yageo.com/documents/recent/PYu-RC0402_51_RoHS_L_6.pdf; ComponentLink1Description: http://www.yageo.com/documents/recent/PYu-RC0402_51_RoHS_L_6.pdf; Resistance (Ohms): 1k
footprint RESC1005X04L
pins: 1, 2

## RES_0402_12K
designator R?, comment 12k
RES 12.0K OHM 1/16W 1% 0402 SMD; Manufacturer 1: Yageo; Manufacturer Part Number 1: RC0402FR-0712KL; Power (Watts): 0.063W, 1/16W; Temperature Coefficient: ±100ppm/°C; Supplier 1: Digi-Key; Supplier Part Number 1: 311-12.0KLRCT-ND; RoHS: RoHS Compliant; Description 1: RES 12.0K OHM 1/16W 1% 0402 SMD; Category: Resistors; Stock 1: 314224; Pricing 1: 1=0.1, 10=0.014, 25=0.0104, 100=0.0063, 250=0.0054, 500=0.00382, 1000=0.0027, 2500=0.00234, 5000=0.00203 (USD); Packaging: Cut Tape (CT); Tolerance: ±1%; Composition: Thick Film; Features: -; Package / Case: 0402 (1005 Metric); Supplier Device Package: 0402; Size / Dimension: 0.039" L x 0.020" W (1.00mm x 0.50mm); Height: 0.016" (0.40mm); Number of Terminations: 2; ComponentLink1URL: http://www.yageo.com/documents/recent/PYu-RC0402_51_RoHS_L_6.pdf; ComponentLink1Description: http://www.yageo.com/documents/recent/PYu-RC0402_51_RoHS_L_6.pdf; Resistance (Ohms): 12k
footprint RESC1005X04L
pins: 1, 2

## RES_0402_82
designator R?, comment 82
RES 82 OHM 1/16W 1% 0402 SMD; Manufacturer 1: Yageo; Manufacturer Part Number 1: RC0402FR-0782RL; Power (Watts): 0.063W, 1/16W; Temperature Coefficient: ±100ppm/°C; Supplier 1: Digi-Key; Supplier Part Number 1: 311-82LRCT-ND; RoHS: RoHS Compliant; Description 1: RES 82 OHM 1/16W 1% 0402 SMD; Category: Resistors; Stock 1: 157223; Pricing 1: 1=0.1, 10=0.014, 25=0.0104, 100=0.0063, 250=0.0054, 500=0.00382, 1000=0.0027, 2500=0.00234, 5000=0.00203 (USD); Packaging: Cut Tape (CT); Tolerance: ±1%; Composition: Thick Film; Features: -; Package / Case: 0402 (1005 Metric); Supplier Device Package: 0402; Size / Dimension: 0.039" L x 0.020" W (1.00mm x 0.50mm); Height: 0.016" (0.40mm); Number of Terminations: 2; ComponentLink1URL: http://www.yageo.com/documents/recent/PYu-RC0402_51_RoHS_L_6.pdf; ComponentLink1Description: http://www.yageo.com/documents/recent/PYu-RC0402_51_RoHS_L_6.pdf; Resistance (Ohms): 82
footprint RESC1005X04L
pins: 1, 2

## RES_0402_150
designator R?, comment 150
RES 150 OHM 1/16W 5% 0402 SMD; Manufacturer 1: Yageo; Manufacturer Part Number 1: RC0402JR-07150RL; Power (Watts): 0.063W, 1/16W; Temperature Coefficient: ±100ppm/°C; Supplier 1: Digi-Key; Supplier Part Number 1: 311-150JRCT-ND; RoHS: RoHS Compliant; Description 1: RES 150 OHM 1/16W 5% 0402 SMD; Category: Resistors; Stock 1: 285028; Pricing 1: 1=0.1, 10=0.012, 25=0.0092, 100=0.0055, 250=0.00476, 500=0.00336, 1000=0.00237, 2500=0.00206, 5000=0.00178 (USD); Packaging: Cut Tape (CT); Tolerance: ±5%; Composition: Thick Film; Features: -; Package / Case: 0402 (1005 Metric); Supplier Device Package: 0402; Size / Dimension: 0.039" L x 0.020" W (1.00mm x 0.50mm); Height: 0.016" (0.40mm); Number of Terminations: 2; ComponentLink1URL: http://www.yageo.com/documents/recent/PYu-RC0402_51_RoHS_L_6.pdf; ComponentLink1Description: http://www.yageo.com/documents/recent/PYu-RC0402_51_RoHS_L_6.pdf; Resistance (Ohms): 150
footprint RESC1005X04L
pins: 1, 2

## RES_0402_270
designator R?, comment 270
RES 270 OHM 1/16W 1% 0402 SMD; Manufacturer 1: Yageo; Manufacturer Part Number 1: RC0402FR-07270RL; Power (Watts): 0.063W, 1/16W; Temperature Coefficient: ±100ppm/°C; Supplier 1: Digi-Key; Supplier Part Number 1: 311-270LRCT-ND; RoHS: RoHS Compliant; Description 1: RES 270 OHM 1/16W 1% 0402 SMD; Category: Resistors; Stock 1: 130910; Pricing 1: 1=0.1, 10=0.014, 25=0.0104, 100=0.0063, 250=0.0054, 500=0.00382, 1000=0.0027, 2500=0.00234, 5000=0.00203 (USD); Packaging: Cut Tape (CT); Tolerance: ±1%; Composition: Thick Film; Features: -; Package / Case: 0402 (1005 Metric); Supplier Device Package: 0402; Size / Dimension: 0.039" L x 0.020" W (1.00mm x 0.50mm); Height: 0.016" (0.40mm); Number of Terminations: 2; ComponentLink1URL: http://www.yageo.com/documents/recent/PYu-RC0402_51_RoHS_L_6.pdf; ComponentLink1Description: http://www.yageo.com/documents/recent/PYu-RC0402_51_RoHS_L_6.pdf; Resistance (Ohms): 270
footprint RESC1005X04L
pins: 1, 2

## RES_0402_560
designator R?, comment 560
RES 560 OHM 1/16W 5% 0402 SMD; Manufacturer 1: Yageo; Manufacturer Part Number 1: RC0402JR-07560RL; Power (Watts): 0.063W, 1/16W; Temperature Coefficient: ±100ppm/°C; Supplier 1: Digi-Key; Supplier Part Number 1: 311-560JRCT-ND; RoHS: RoHS Compliant; Description 1: RES 560 OHM 1/16W 5% 0402 SMD; Category: Resistors; Stock 1: 68940; Pricing 1: 1=0.1, 10=0.012, 25=0.0092, 100=0.0055, 250=0.00476, 500=0.00336, 1000=0.00237, 2500=0.00206, 5000=0.00178 (USD); Packaging: Cut Tape (CT); Tolerance: ±5%; Composition: Thick Film; Features: -; Package / Case: 0402 (1005 Metric); Supplier Device Package: 0402; Size / Dimension: 0.039" L x 0.020" W (1.00mm x 0.50mm); Height: 0.016" (0.40mm); Number of Terminations: 2; ComponentLink1URL: http://www.yageo.com/documents/recent/PYu-RC0402_51_RoHS_L_6.pdf; ComponentLink1Description: http://www.yageo.com/documents/recent/PYu-RC0402_51_RoHS_L_6.pdf; Resistance (Ohms): 560
footprint RESC1005X04L
pins: 1, 2

## SML-LX0404SIUPGUSB
designator LD?  Manufacturer Part Number 1: SML-LX0404SIUPGUSB
RGB LED 1.00 mm x 1.00 mm SMD; Manufacturer 1: Lumex Opto/Components Inc; Description 1: LED RGB SQUARE CLEAR SMD; Color: Red, Green, Blue (RGB); Wavelength - Peak: 632nm, 518nm, 465nm; Millicandela Rating: 30mcd Red, 40mcd Green, 20mcd Blue; Voltage - Forward (Vf) Typ: 1.95V Red, 2.85V Green, 2.73V Blue; Current - Test: 2mA; Viewing Angle: 120°; Lens Type: Clear; Lens Style/Size: Square with Flat Top, 1mm; Supplier 1: Digi-Key; Supplier Part Number 1: 67-2125-1-ND; RoHS: RoHS Compliant; Category: Optoelectronics; Stock 1: 62400; Pricing 1: 1=1.2, 10=0.958, 100=0.665, 250=0.5852, 500=0.4921, 1000=0.399 (USD); Packaging: Cut Tape (CT); Wavelength - Dominant: -; Package / Case: 0404 (1010 Metric); Size / Dimension: 1.00mm L x 1.00mm W; Height: 0.25mm; Mounting Type: Surface Mount; Luminous Flux @ Current - Test: -; ComponentLink1URL: http://media.digikey.com/pdf/Data%20Sheets/Lumex%20PDFs/SML-LX0404SIUPGUSB.pdf; ComponentLink1Description: http://media.digikey.com/pdf/Data%20Sheets/Lumex%20PDFs/SML-LX0404SIUPGUSB.pdf
footprint SML-LX0404SIUPGUSB
pins: 1 A, 2 C_R, 3 C_B, 4 C_G
text: G; B; R

## SOLDERBRIDGE
designator SB?  (no BOM)
Solderbridge
footprint Solderbridge
pins: 1 0, 2 1

## TESTPAD
designator TP?  (no BOM)
Regular Plated, 0.5mm hole
footprint TP_SMD_0.5mmX0.5mm
pins: 1

## XTAL_TSX-2520
designator X?, comment 16MHz
XTAL SMD 2520, 16MHz, 8pF, ±15ppm; Manufacturer 1: NDK; Manufacturer Part Number 1: NX2520SA-16MHZ-STD-CSW-4; Description 1: CRYSTAL 16MHZ 8PF SMD; ESR (Equivalent Series Resistance): 80 Ohm; Operating Mode: Fundamental; Supplier 1: Digi-Key; Supplier Part Number 1: 644-1168-1-ND; RoHS: RoHS Compliant; Category: Crystals and Oscillators; Stock 1: 3956; Pricing 1: 1=1.62, 10=1.404, 50=1.2312, 100=0.972, 500=0.8208, 1000=0.648 (USD); Packaging: Cut Tape (CT); Type: MHz Crystal; Frequency Stability: ±15ppm; Frequency Tolerance: ±15ppm; Load Capacitance: 8pF; Operating Temperature: -10°C ~ 75°C; Ratings: -; Mounting Type: Surface Mount; Package / Case: 4-SMD; Size / Dimension: 0.098" L x 0.079" W (2.50mm x 2.00mm); Height: 0.022" (0.55mm); ComponentLink1URL: http://www.ndk.com/images/products/catalog/c_NX2520SA-STD-CSW-4_e.pdf; ComponentLink1Description: http://www.ndk.com/images/products/catalog/c_NX2520SA-STD-CSW-4_e.pdf; Frequency: 16MHz
footprint BT-XTAL_2520
pins: 1 inp, 2 GND hidden to GND, 3 out, 4 GND hidden to GND